# Altium schematic symbol library ADXL345-EP.SchLib: 1 symbol
Pins are listed as number, name and electrical type; pins without a type are passive.

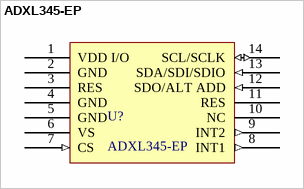
[diagram p0: symbol ADXL345-EP]

## ADXL345-EP
designator U?
ADXL345-EP I2C Accelerometer; Manufacturer: Analog Devices; Reference: ADXL345-EP
footprint ADXL345-EP (PQFN, 14-Leads, Body 3,00x5,00mm, Pitch 0,80mm/0,81mm, IPC Medium Density)
pins: 1 VDD I/O (power), 2 GND (power), 3 RES, 4 GND (power), 5 GND (power), 6 VS (power), 7 CS (in), 8 INT1 (out), 9 INT2 (out), 10 NC, 11 RES, 12 SDO/ALT ADD (in), 13 SDA/SDI/SDIO (in), 14 SCL/SCLK (io)